# EAGLE library part BD6212 (library 000-ece411)
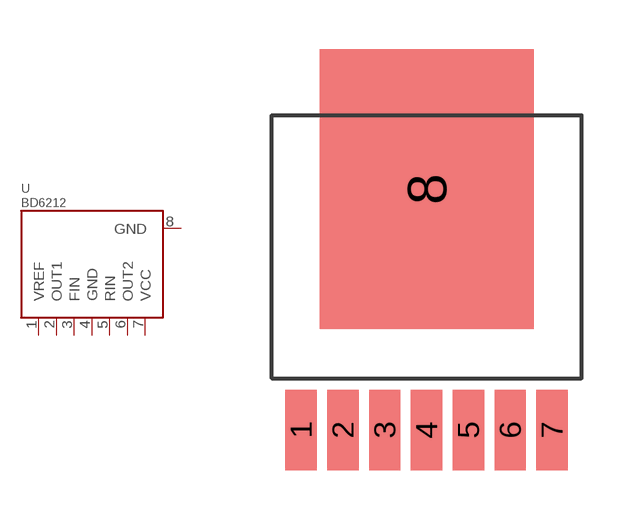
[diagram p7: symbol with the pads of HRP7; footprint HRP7]

Designator prefix -

## BD6212  [HRP7]
1  VREF
2  OUT1
3  FIN
4  GND
5  RIN
6  OUT2
7  VCC
8  GND

## Footprint HRP7 (pad centres in mm)
smd 0.95 x 2.445: 1 0,0; 2 1.27,0; 3 2.54,0; 4 3.81,0; 5 5.08,0; 6 6.35,0; 7 7.62,0
smd 6.5 x 8.5: 8 3.81,7.316